# EAGLE library part TSM-112 (library nw2s)
24 pin 2-row SMD 2.54mm header
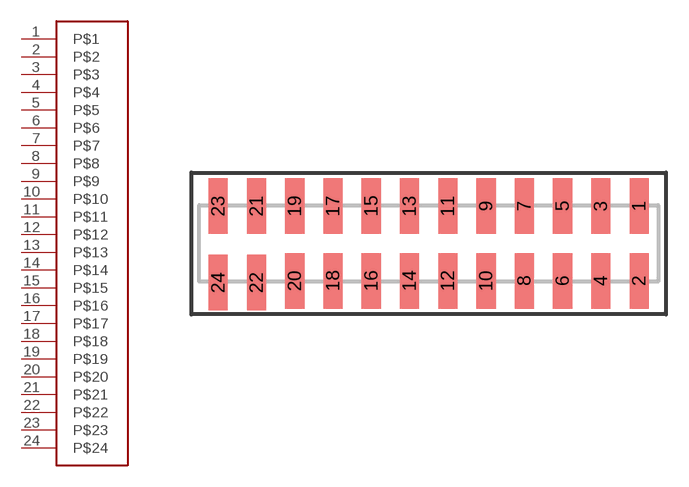
[diagram p4: symbol with the pads of TSM-112-XX-XXX-DV; footprint TSM-112-XX-XXX-DV]

Designator prefix -

## TSM-112  [TSM-112-XX-XXX-DV]
1  P$1
2  P$2
3  P$3
4  P$4
5  P$5
6  P$6
7  P$7
8  P$8
9  P$9
10  P$10
11  P$11
12  P$12
13  P$13
14  P$14
15  P$15
16  P$16
17  P$17
18  P$18
19  P$19
20  P$20
21  P$21
22  P$22
23  P$23
24  P$24

## Footprint TSM-112-XX-XXX-DV (pad centres in mm)
smd 1.27 x 3.683: 1 13.97,2.477; 2 13.97,-2.477; 3 11.43,2.477; 4 11.43,-2.477; 5 8.89,2.477; 6 8.89,-2.477; 7 6.35,2.477; 8 6.35,-2.477; 9 3.81,2.477; 10 3.81,-2.477; 11 1.27,2.477; 12 1.27,-2.477; 13 -1.27,2.477; 14 -1.27,-2.477; 15 -3.81,2.477; 16 -3.81,-2.477; 17 -6.35,2.477; 18 -6.35,-2.477; 19 -8.89,2.477; 20 -8.89,-2.477; 21 -11.43,2.477; 22 -11.43,-2.603; 23 -13.97,2.477; 24 -13.97,-2.603